# Altium schematic symbol library CAP,Cer,220nF,10VDC,X7R,0402.Schlib: 1 symbol
Pins are listed as number, name and electrical type; pins without a type are passive.

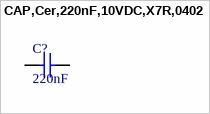
[diagram p0: symbol CAP,Cer,220nF,10VDC,X7R,0402]

## CAP,Cer,220nF,10VDC,X7R,0402
designator C?, comment 220nF
0.22µF ±10% 10V Ceramic Capacitor X7R 0402 (1005 Metric)
pins: 1, 2